# Altium schematic symbol library Schlib1.SchLib: 19 symbols
Pins are listed as number, name and electrical type; pins without a type are passive.

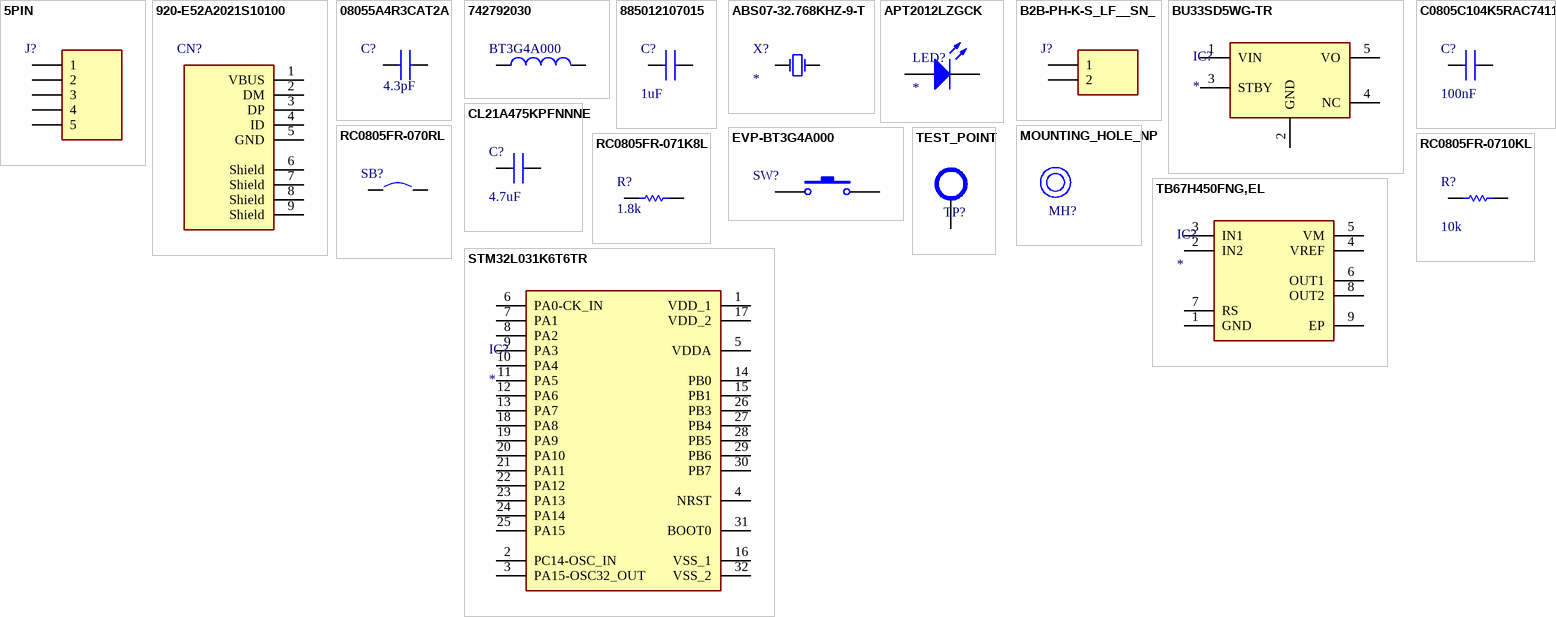
[diagram p0: symbols 5PIN to TEST_POINT]

## 5PIN
designator J?  (value not drawn)
Connector
footprint 5PIN (Connector; Edge; 22 Position)
pins: 1, 2, 3, 4, 5

## 920-E52A2021S10100
designator CN?  (value not drawn)
USB connector; Manufacturer_Name: Jing Extension of the Electronic Co.; Datasheet Link: http://toshiba.semicon-storage.com/info/docget.jsp?did=65346&prodName=TB67H450FNG; Height: 1.9mm; Manufacturer_Part_Number: https://datasheet.lcsc.com/lcsc/2103051832_Jing-Extension-of-the-Electronic-Co--920-E52A2021S10100_C10418.pdf; Mouser Part Number: 920-E52A2021S10100; Mouser Price/Stock: https://www.mouser.co.uk/ProductDetail/Toshiba/TB67H450FNGEL?qs=h6V4JsTaLXeReNg2bp0jug%3D%3D; Arrow Part Number: TB67H450FNG,EL; Arrow Price/Stock: https://www.arrow.com/en/products/tb67h450fngel/toshiba?region=nac
footprint USB307530A
pins: 1 VBUS, 2 DM, 3 DP, 4 ID, 5 GND, 6 Shield, 7 Shield, 8 Shield, 9 Shield

## 08055A4R3CAT2A
designator C?  value 4.3pF  (hidden comment: *)
Capacitor; Manufacturer_Name: AVX; Manufacturer_Part_Number: 08055A4R3CAT2A; Datasheet Link: http://datasheets.avx.com/C0GNP0-Dielectric.pdf; Height: 0.94mm
footprint CAPC2012X94N
pins: 1, 2

## 742792030
designator BT3G4A000  (value not drawn)
Inductor; Manufacturer_Name: Wurth Elektronik; Manufacturer_Part_Number: 742792030; Datasheet Link: https://www.mouser.fr/datasheet/2/445/742792030-2449195.pdf; Height: 0.6mm
footprint RESC2012X60N
pins: 1, 2

## 885012107015
designator C?  value 1uF  (hidden comment: *)
Capacitor; Manufacturer_Name: Wurth Elektronik; Manufacturer_Part_Number: 885012107015; Datasheet Link: https://katalog.we-online.com/pbs/datasheet/885012107015.pdf; Height: 1.35mm; Mouser Part Number: 710-885012107015; Mouser Price/Stock: https://www.mouser.co.uk/ProductDetail/Wurth-Elektronik/885012107015?qs=0KOYDY2FL2%252BNQREZP%252BtVoQ%3D%3D
footprint CAPC2012X135N
pins: 1, 2

## ABS07-32.768KHZ-9-T
designator X?
Crystal; Manufacturer_Name: ABRACON; Manufacturer_Part_Number: ABS07-32.768KHZ-9-T; Datasheet Link: http://www.abracon.com/Resonators/ABS07.pdf; Mouser Part Number: 815-ABS07-32.768K9T; Mouser Price/Stock: https://www.mouser.co.uk/ProductDetail/ABRACON/ABS07-32768KHZ-9-T?qs=2nyfZ6BV3ogTQgR0mYqaug%3D%3D; Arrow Part Number: ABS07-32.768KHZ-9-T; Arrow Price/Stock: https://www.arrow.com/en/products/abs07-32.768khz-9-t/abracon?region=nac
footprint ABS-07
pins: 1, 2

## APT2012LZGCK
designator LED?
LED; Manufacturer_Name: Kingbright; Manufacturer_Part_Number: APT2012LZGCK; Datasheet Link: http://www.kingbrightusa.com/images/catalog/SPEC/APT2012LZGCK.pdf; Height: 0.85mm; Mouser Part Number: 604-APT2012LZGCK; Mouser Price/Stock: https://www.mouser.co.uk/ProductDetail/Kingbright/APT2012LZGCK?qs=6oMev5NRZMHOosFiXb%2F3qw%3D%3D; Arrow Part Number: APT2012LZGCK; Arrow Price/Stock: https://www.arrow.com/en/products/apt2012lzgck/kingbright
footprint LEDC2012X85N
pins: 1 K, 2 A

## B2B-PH-K-S_LF__SN_
designator J?  (value not drawn)
Connector; Manufacturer_Name: JST (JAPAN SOLDERLESS TERMINALS); Manufacturer_Part_Number: B2B-PH-K-S(LF)(SN); Datasheet Link: https://datasheet.lcsc.com/szlcsc/JST-Sales-America-B2B-PH-K-S-LF-SN_C131337.pdf; Height: 6mm; Arrow Part Number: B2B-PH-K-S(LF)(SN); Arrow Price/Stock: https://www.arrow.com/en/products/b2b-ph-k-s-lf-sn/jst-manufacturing
footprint SHDR2W50P0X200_1X2_590X450X600P
pins: 1, 2

## BU33SD5WG-TR
designator IC?
Power Supply; Manufacturer_Name: ROHM Semiconductor; Manufacturer_Part_Number: BU33SD5WG-TR; Datasheet Link: https://componentsearchengine.com/Datasheets/1/BU33SD5WG-TR.pdf; Height: 1.25mm; Mouser Part Number: 755-BU33SD5WG-TR; Mouser Price/Stock: https://www.mouser.co.uk/ProductDetail/ROHM-Semiconductor/BU33SD5WG-TR?qs=%2FKR40Cd6GUrQDzRkUEt69Q%3D%3D
footprint SOT95P280X125-5N
pins: 1 VIN, 2 GND, 3 STBY, 4 NC, 5 VO

## C0805C104K5RAC7411
designator C?  value 100nF  (hidden comment: *)
Capacitor; Manufacturer_Name: Kemet; Manufacturer_Part_Number: C0805C104K5RAC7411; Datasheet Link: https://www.mouser.com/datasheet/2/212/KEM_C1002_X7R_SMD-1102033.pdf; Height: 0.88mm; Mouser Part Number: 80-C0805C104K5RACLR; Mouser Price/Stock: https://www.mouser.co.uk/ProductDetail/KEMET/C0805C104K5RAC7411?qs=jbRM9o5BbzPcVXF0wW9AYg%3D%3D; Arrow Part Number: C0805C104K5RAC7411; Arrow Price/Stock: https://www.arrow.com/en/products/c0805c104k5rac7411/kemet-corporation
footprint CAPC2012X94N
pins: 1, 2

## CL21A475KPFNNNE
designator C?  value 4.7uF  (hidden comment: *)
Capacitor; Manufacturer_Name: Wurth Elektronik; Manufacturer_Part_Number: CL21A475KPFNNNE; Datasheet Link: https://www.mouser.fr/datasheet/2/585/MLCC-1837944.pdf; Height: 1.35mm; Mouser Part Number: 187-CL21A475KPFNNNE; Mouser Price/Stock: https://www.mouser.co.uk/ProductDetail/Wurth-Elektronik/885012107015?qs=0KOYDY2FL2%252BNQREZP%252BtVoQ%3D%3D
footprint CAPC2012X135N
pins: 1, 2

## EVP-BT3G4A000
designator SW?  (value not drawn)
Tactile switch; Manufacturer_Name: Panasonic; Manufacturer_Part_Number: EVP-BT3G4A000; Datasheet Link: https://www.mouser.fr/datasheet/2/315/sw_lt_eng_6s_th-2889044.pdf; Height: 3.1mm
footprint EVP-BT3G4A000
pins: 1, 2, 3, 4

## MOUNTING_HOLE_NP
designator MH?  (value not drawn)  (no BOM)
Mounting hole
footprint MOUNTING_HOLE_NP

## RC0805FR-070RL
designator SB?  (value not drawn)
Jumper (0 ohm); Manufacturer_Name: YAGEO (PHYCOMP); Manufacturer_Part_Number: RC0805FR-070RL; Datasheet Link: https://datasheet.datasheetarchive.com/originals/distributors/Datasheets_SAMA/902f9e387b938f871d31120f5fc1d65e.pdf; Height: 0.6mm; Mouser Part Number: 603-RC0805FR-070RL; Mouser Price/Stock: https://www.mouser.co.uk/ProductDetail/YAGEO/RC0805FR-070RL?qs=fRxXYNj8ftF6kXqh1XbZJQ%3D%3D
footprint RESC2012X60N
pins: 1, 2

## RC0805FR-071K8L
designator R?  value 1.8k  (hidden comment: *)
Resistor; Manufacturer_Name: YAGEO (PHYCOMP); Manufacturer_Part_Number: RC0805FR-071K8L; Datasheet Link: https://datasheet.datasheetarchive.com/originals/distributors/Datasheets_SAMA/902f9e387b938f871d31120f5fc1d65e.pdf; Height: 0.6mm; Mouser Part Number: 603-RC0805FR-071K8L; Mouser Price/Stock: https://www.mouser.co.uk/ProductDetail/Yageo/RC0805FR-071K8L/?qs=BrN8wpjQTgHgSGvPYmemsg%3D%3D
footprint RESC2012X60N
pins: 1, 2

## RC0805FR-0710KL
designator R?  value 10k  (hidden comment: *)
Resistor; Manufacturer_Name: YAGEO (PHYCOMP); Manufacturer_Part_Number: RC0805FR-0710KL; Datasheet Link: https://datasheet.datasheetarchive.com/originals/distributors/Datasheets_SAMA/902f9e387b938f871d31120f5fc1d65e.pdf; Height: 0.6mm; Mouser Part Number: 603-RC0805FR-0710KL; Mouser Price/Stock: https://www.mouser.co.uk/ProductDetail/YAGEO/RC0805FR-0710KL?qs=7bY8808IzHq6vrU3BeiiYw%3D%3D; Arrow Part Number: RC0805FR-0710KL; Arrow Price/Stock: https://www.arrow.com/en/products/rc0805fr-0710kl/yageo?region=europe
footprint RESC2012X60N
pins: 1, 2

## STM32L031K6T6TR
designator IC?
Integrated Circuit; Manufacturer_Name: STMicroelectronics; Manufacturer_Part_Number: STM32L031K6T6TR; Datasheet Link: https://www.mouser.fr/datasheet/2/389/dm00140359-1798360.pdf; Height: 1.6mm; Mouser Part Number: 511-STM32L031K6T6TR; Mouser Price/Stock: https://www.mouser.co.uk/ProductDetail/STMicroelectronics/STM32L031K6T6?qs=mwoc%252BQmZlGIAMyWzQ3GanA%3D%3D; Arrow Part Number: STM32L031K6T6; Arrow Price/Stock: https://www.arrow.com/en/products/stm32l031k6t6/stmicroelectronics?region=nac
footprint QFP80P900X900X160-32N
pins: 1 VDD_1, 2 PC14-OSC_IN, 3 PA15-OSC32_OUT, 4 NRST, 5 VDDA, 6 PA0-CK_IN, 7 PA1, 8 PA2, 9 PA3, 10 PA4, 11 PA5, 12 PA6, 13 PA7, 14 PB0, 15 PB1, 16 VSS_1, 17 VDD_2, 18 PA8, 19 PA9, 20 PA10, 21 PA11, 22 PA12, 23 PA13, 24 PA14, 25 PA15, 26 PB3, 27 PB4, 28 PB5, 29 PB6, 30 PB7, 31 BOOT0, 32 VSS_2

## TB67H450FNG,EL
designator IC?
Integrated Circuit; Manufacturer_Name: Toshiba; Manufacturer_Part_Number: TB67H450FNG,EL; Datasheet Link: http://toshiba.semicon-storage.com/info/docget.jsp?did=65346&prodName=TB67H450FNG; Height: 1.75mm; Mouser Part Number: 757-TB67H450FNGEL; Mouser Price/Stock: https://www.mouser.co.uk/ProductDetail/Toshiba/TB67H450FNGEL?qs=h6V4JsTaLXeReNg2bp0jug%3D%3D; Arrow Part Number: TB67H450FNG,EL; Arrow Price/Stock: https://www.arrow.com/en/products/tb67h450fngel/toshiba?region=nac
footprint SOIC127P600X175-9N
pins: 1 GND, 2 IN2, 3 IN1, 4 VREF, 5 VM, 6 OUT1, 7 RS, 8 OUT2, 9 EP

## TEST_POINT
designator TP?  (value not drawn)  (no BOM)
Test point
footprint TEST_POINT (Test point)
pins: TP